# Altium footprint library Protection.PcbLib: 16 footprints
Each footprint in its own frame and in the unit in brackets; x right, y up, seen from the top. Pads: shape width x height; smd on the part's side, far side on the other; paste and mask are expansions set on the pad; w line width, h text height; cw(c..) or ccw(c..) is an arc to the next point about the centre after c.
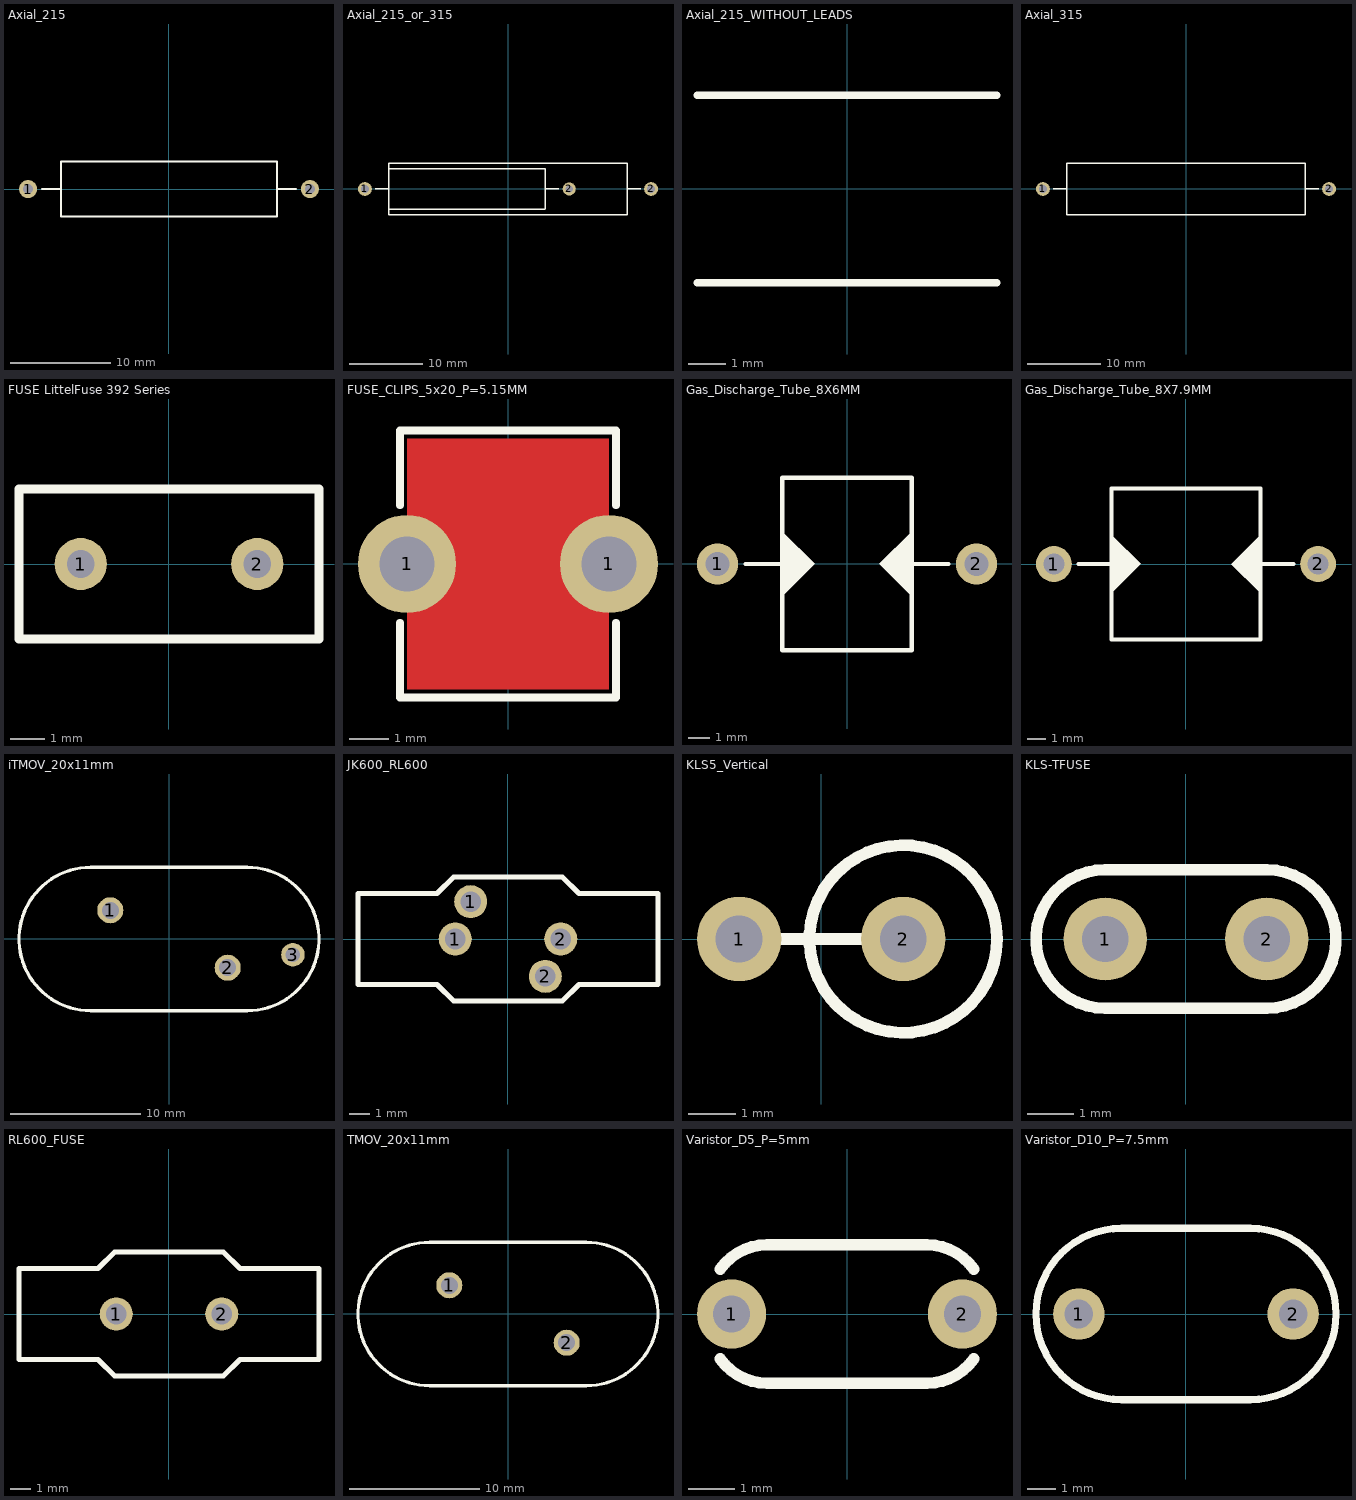
[diagram p0: the footprints below, top view; thin cyan lines are the x and y axes]

## Axial_215 [mm] "Thru-Hole; 2 Leads, 5.5x21.5mm"
height 5
pads (2):
  round 1.8 hole 1: 1(-14,0) 2(14,0)
Top Overlay:
  lines w0.2: -12.6,0 -10.75,0 ; 10.75,-2.75 -10.75,-2.75 -10.75,2.75 10.75,2.75 ; 10.75,-2.743 10.75,2.757 ; 10.75,0 12.6,0
3D body: height 5.3, standoff 0.7, extent -5.65,-2.3 5.65,2.3
3D body: height 5.75, standoff 0.25, extent 8.15,-2.744 10.75,2.756
3D body: height 5.75, standoff 0.25, extent -10.75,-2.75 -8.15,2.75
3D body: height 5.5, standoff 0.5, extent 5.65,-2.497 10.75,2.497
3D body: height 5.5, standoff 0.5, extent -10.75,-2.497 -5.65,2.497
3D body "Fuse_5x20_1.STEP": height 3.4, standoff -2.5, extent -14.4,-0.4 -2,0.4
3D body "Fuse_5x20_1.STEP": height 3.4, standoff -2.5, extent 2,-0.4 14.4,0.4

## Axial_215_or_315 [mm] "Thru-Hole; 2 Leads, 5.5x21.5mm or 7x32.72mm"
pads (3):
  round 1.9 hole 1.1: 1(-19.61,0) 2(19.61,0)
  round 1.8 hole 1: 2(8.39,0)
Top Overlay:
  lines w0.2: -18.21,0 -16.36,0 ; -16.36,3.496 16.36,3.496 ; -16.36,3.5 -16.36,-3.5 16.36,-3.5 ; 5.14,-2.75 -16.36,-2.75 -16.36,2.75 5.14,2.75 ; 5.14,-2.743 5.14,2.757 ; 5.14,0 6.99,0 ; 16.36,-3.506 16.36,3.494 ; 16.36,0 18.21,0
3D body: height 7.09, standoff 0.11, extent 13.76,-3.482 16.36,3.495
3D body: height 6.78, standoff 0.43, extent 11.26,-3.172 16.36,3.172
3D body "Fuse_5x20_1.STEP": height 4, standoff -1.9, extent 7.61,-0.4 20.01,0.4
3D body "Fuse_5x20_1.STEP": height 4, standoff -1.9, extent -20.01,-0.4 -7.61,0.4
3D body: height 6.78, standoff 0.43, extent -16.36,-3.172 -11.26,3.172
3D body: height 7.09, standoff 0.11, extent -16.36,-3.483 -13.76,3.496
3D body: height 6.6, standoff 0.6, extent -11.26,-3 11.26,3

## Axial_215_WITHOUT_LEADS [mm] "Thru-Hole; 2 Leads, 5.5x21.5mm"
height 5
Top Overlay:
  lines w0.2: -4,-2.5 4,-2.5 ; -4,2.5 4,2.5
3D body: height 7.8, standoff 3.2, extent -5,-2.3 5,2.3
3D body: height 8, standoff 3, extent 5,-2.494 10,2.5
3D body: height 8, standoff 3, extent -10,-2.497 -5,2.497

## Axial_315 [mm] "Thru-Hole; 2 Leads, 7x32.72mm"
pads (2):
  round 1.9 hole 1.1: 1(-19.61,0) 2(19.61,0)
Top Overlay:
  lines w0.2: -18.21,0 -16.36,0 ; -16.36,3.496 16.36,3.496 ; -16.36,3.5 -16.36,-3.5 16.36,-3.5 ; 16.36,-3.506 16.36,3.494 ; 16.36,0 18.21,0
3D body: height 7.09, standoff 0.11, extent 13.76,-3.482 16.36,3.495
3D body: height 6.78, standoff 0.43, extent 11.26,-3.172 16.36,3.172
3D body "Fuse_5x20_1.STEP": height 4, standoff -1.9, extent 7.61,-0.4 20.01,0.4
3D body "Fuse_5x20_1.STEP": height 4, standoff -1.9, extent -20.01,-0.4 -7.61,0.4
3D body: height 6.78, standoff 0.43, extent -16.36,-3.172 -11.26,3.172
3D body: height 7.09, standoff 0.11, extent -16.36,-3.483 -13.76,3.496
3D body: height 6.6, standoff 0.6, extent -11.26,-3 11.26,3

## FUSE LittelFuse 392 Series [mm] "Площадка под предохранитель, шаг 5.08мм"
height 8
pads (2):
  round 1.5 hole 0.8: 1(-2.54,0) 2(2.54,0)
Top Overlay:
  lines w0.25: -4.318,-2.159 -4.318,2.159 4.318,2.159 4.318,-2.159 -4.318,-2.159
3D body "Littelfuse 392 Series.STEP": height 8, standoff -2, extent -4.25,-2.252 4.25,2.252

## FUSE_CLIPS_5x20_P=5.15MM [mm] "Thru-Hole; 2 Leads"
height 7.32
pads (2):
  round 2.5 hole 1.4: 1(-2.575,0) 1(2.575,0)
Top Layer:
  region: -2.575,3.2 2.575,3.2 2.575,-3.2 -2.575,-3.2
Bottom Layer:
  region: -2.575,1.25 2.575,1.25 2.575,-1.25 -2.575,-1.25
Top Overlay:
  lines w0.2: -2.75,-1.5 -2.75,-3.4 2.75,-3.4 2.75,-1.5 ; -2.75,1.5 -2.75,3.4 2.75,3.4 2.75,1.5
Top Solder:
  region: -2.575,3.2 2.575,3.2 2.575,-3.2 -2.575,-3.2
Bottom Solder:
  region: -2.575,1.35 2.575,1.35 2.575,-1.35 -2.575,-1.35
3D body "Fuse Clip_leg.stp": height 0.4, standoff -3.6, extent -2.75,-0.625 1.05,0.625
3D body "Fuse Clip_leg.stp": height 0.4, standoff -3.6, extent -1.05,-0.625 2.75,0.625
3D body "Fuse Clip1.stp": height 7.9, standoff 0.1, extent -2.25,-2.897 2.25,2.898

## Gas_Discharge_Tube_8X6MM [mm] "Thru-Hole; 2 Leads, D=8mm, L=6mm"
height 8
pads (2):
  round 1.9 hole 1.1: 1(-6,0) 2(6,0)
Top Overlay:
  region: 3,1.5 1.5,0 3,-1.5
  region: -3,1.5 -1.5,0 -3,-1.5
  lines w0.2: -4.7,0 -3.05,0 ; 3.05,0 4.7,0 ; -3,-4 3,-4 3,4 -3,4 -3,-4
3D body "Pin_0.8_6x6.STEP": height 4.4, standoff -2, extent 0,-0.4 6.4,0.4
3D body "Pin_0.8_6x6.STEP": height 4.4, standoff -2, extent -6.4,-0.4 0,0.4
3D body: height 8, standoff 0, extent -3,-3.997 3,3.997

## Gas_Discharge_Tube_8X7.9MM [mm] "Thru-Hole; 2 Leads, D=8mm, L=7.9mm"
height 8
pads (2):
  round 1.9 hole 1.1: 1(-7,0) 2(7,0)
Top Overlay:
  region: 3.9,1.5 2.4,0 3.9,-1.5
  region: -3.9,1.5 -2.4,0 -3.9,-1.5
  lines w0.2: -5.7,0 -3.95,0 ; 3.95,0 5.7,0 ; -3.95,-4 3.95,-4 3.95,4 -3.95,4 -3.95,-4
3D body "Pin_0.8_6x6.STEP": height 4.4, standoff -2, extent 1,-0.4 7.4,0.4
3D body "Pin_0.8_6x6.STEP": height 4.4, standoff -2, extent -7.4,-0.4 -1,0.4
3D body: height 8, standoff 0, extent -3.95,-3.997 3.95,3.997

## iTMOV_20x11mm [mm]
height 28
pads (3):
  round 2 hole 1.3: 1(-4.5,2.2) 2(4.5,-2.2)
  round 1.8 hole 1.1: 3(9.5,-1.2)
Top Overlay:
  lines w0.25: -6,-5.5 cw(c-6,0) -6,5.5 6,5.5 cw(c6,0) 6,-5.5 -6,-5.5
3D body "User Library-Varistor_20mm.STEP": height 27.7, standoff 0.21, extent -10.75,-2.898 10.75,2.9

## JK600_RL600 [mm]
pads (4):
  round 1.6 hole 1: 1(-2.55,0) 1(-1.803,1.803) 2(1.803,-1.803) 2(2.55,0)
Top Overlay:
  lines w0.25: -7.25,-2.2 -3.425,-2.2 -2.625,-3 2.625,-3 3.425,-2.2 7.25,-2.2 7.25,2.2 3.425,2.2 2.625,3 -2.625,3 -3.425,2.2 -7.25,2.2 -7.25,-2.2
3D body: height 14.5, standoff 1, extent -7.25,-3 7.25,3.012
3D body: height 2, standoff -3, extent 2.25,-0.3 2.85,0.3
3D body: height 2, standoff -3, extent -2.85,-0.3 -2.25,0.3

## KLS5_Vertical [mm]
pads (2):
  round 1.8 hole 1: 1(-1.75,0) 2(1.75,0)
Top Overlay:
  circle w0.254: c1.75,0 r2
  lines w0.25: -1.75,0 1.75,0
3D body "KLS5-205.STEP": height 13, standoff -2.5, extent -2.25,-1.8 3.55,1.8

## KLS-TFUSE [mm]
pads (2):
  round 1.8 hole 1: 1(-1.75,0) 2(1.75,0)
Top Overlay:
  lines w0.25: -1.75,-1.5 cw(c-1.75,0) -1.75,1.5 1.75,1.5 cw(c1.75,0) 1.75,-1.5 -1.75,-1.5

## RL600_FUSE [mm]
pads (2):
  round 1.6 hole 1: 1(-2.55,0) 2(2.55,0)
Top Overlay:
  lines w0.25: -7.25,-2.2 -3.425,-2.2 -2.625,-3 2.625,-3 3.425,-2.2 7.25,-2.2 7.25,2.2 3.425,2.2 2.625,3 -2.625,3 -3.425,2.2 -7.25,2.2 -7.25,-2.2
3D body: height 14.5, standoff 1, extent -7.25,-3 7.25,3.012
3D body: height 2, standoff -3, extent 2.25,-0.3 2.85,0.3
3D body: height 2, standoff -3, extent -2.85,-0.3 -2.25,0.3

## TMOV_20x11mm [mm]
height 28
pads (2):
  round 2 hole 1.3: 1(-4.5,2.2) 2(4.5,-2.2)
Top Overlay:
  lines w0.25: -6,-5.5 cw(c-6,0) -6,5.5 6,5.5 cw(c6,0) 6,-5.5 -6,-5.5
3D body "User Library-Varistor_20mm.STEP": height 27.7, standoff 0.21, extent -10.75,-2.898 10.75,2.9

## Varistor_D5_P=5mm [mm]
pads (2):
  round 1.5 hole 0.8: 1(-2.5,0) 2(2.5,0)
Top Overlay:
  lines w0.25: -2.75,-0.969 ccw(c-1.728,-0.25) -1.728,-1.5 1.728,-1.5 ccw(c1.728,-0.25) 2.75,-0.969 ; -2.75,0.969 cw(c-1.728,0.25) -1.728,1.5 1.728,1.5 cw(c1.728,0.25) 2.75,0.969
3D body "cdisk_p5-5_d5_th3.stp": height 7, standoff -3, extent -3.25,-1.5 3.25,1.5

## Varistor_D10_P=7.5mm [mm]
pads (2):
  round 1.8 hole 1: 1(-3.75,0) 2(3.75,0)
Top Overlay:
  lines w0.25: -2.25,-3 cw(c-2.25,0) -2.25,3 2.25,3 cw(c2.25,0) 2.25,-3 -2.25,-3
3D body "S10K471.STEP": height 12.5, standoff -2.5, extent -5.274,-2.907 5.269,2.768